# Altium footprint library PcbLib1.PcbLib: 32 footprints (part 1 of 2)
Each footprint in its own frame and in the unit in brackets; x right, y up, seen from the top. Pads: shape width x height; smd on the part's side, far side on the other; paste and mask are expansions set on the pad; w line width, h text height; cw(c..) or ccw(c..) is an arc to the next point about the centre after c.
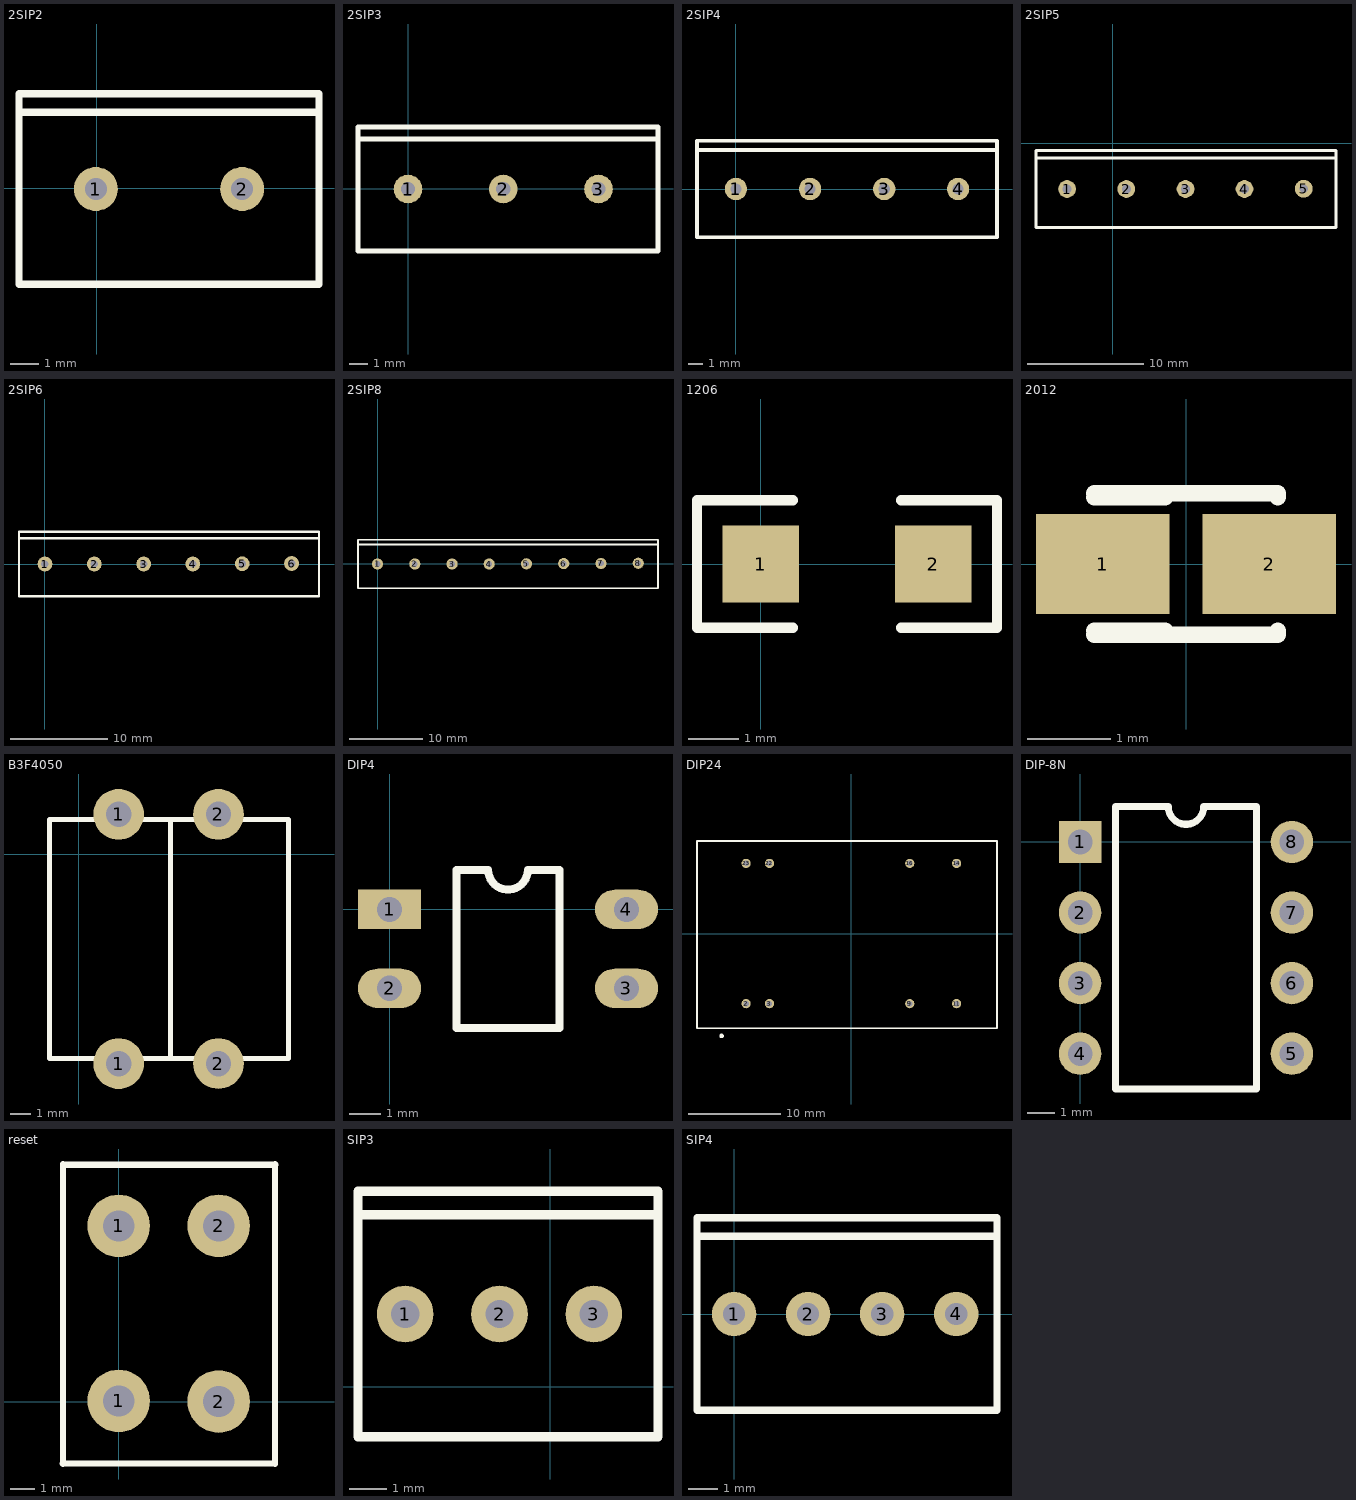
[diagram p0: the footprints below, top view; thin cyan lines are the x and y axes]

## 2SIP2 [mil]
pads (2):
  round 60 hole 30: 1(-1,-1) 2(199,-1)
Top Overlay:
  lines w10: -106,104 304,104 ; -106,-131 -106,129 304,129 304,-131 -106,-131

## 2SIP3 [mil]
pads (3):
  round 60 hole 30: 1(-1,-1) 2(199,-1) 3(399,-1)
Top Overlay:
  lines w10: -106,104 524,104 ; -106,-131 -106,129 524,129 524,-131 -106,-131

## 2SIP4 [mil]
pads (4):
  round 60 hole 30: 1(0,0) 2(200,0) 3(400,0) 4(599,0)
Top Overlay:
  lines w10: -105,105 704,105 ; -105,-130 -105,130 704,130 704,-130 -105,-130

## 2SIP5 [mil]
pads (5):
  round 60 hole 30: 1(-154,-154) 2(46,-154) 3(246,-154) 4(445,-154) 5(645,-153)
Top Overlay:
  lines w10: -259,-49 754,-49 ; -259,-284 754,-284 754,-24 -259,-24 -259,-284

## 2SIP6 [mil]
pads (6):
  round 60 hole 30: 1(0,0) 2(200,0) 3(400,0) 4(599,0) 5(799,1) 6(999,2)
Top Overlay:
  lines w10: -105,105 1110,105 ; -105,-130 -105,130 1110,130 1110,-130 -105,-130

## 2SIP8 [mil]
pads (8):
  round 60 hole 30: 1(-1,0) 2(199,0) 3(399,0) 4(598,0) 5(798,1) 6(998,2) 7(1198,3) 8(1398,4)
Top Overlay:
  lines w10: -106,105 1504,105 ; -106,-130 1504,-130 1504,130 -106,130 -106,-130

## 1206 [mil]
pads (2):
  rect 60x60 smd: 1(0,0) 2(135,0)
Top Overlay:
  lines w8: 25,-50 -50,-50 -50,50 25,50 ; 110,-50 185,-50 185,50 110,50

## 2012 [mm] "Capacitor, SM Tantalum; Body 2.0 x 1.25 mm (LxW typ)"
height 1.2
pads (2):
  rect 1.6x1.2 smd: 1(-1,0) 2(1,0)
Top Overlay:
  lines w0.2: -1.1,-0.85 1.1,-0.85 1.1,-0.8 ; -1.1,-0.8 -0.25,-0.8 ; -1.1,0.8 -0.25,0.8 ; -1.1,0.85 1.1,0.85 1.1,0.8

## B3F4050 [mm]
pads (4):
  round 2.54 hole 1.27: 1(2,-10.5) 1(2,2) 2(7,-10.497) 2(7,2)
Top Overlay:
  lines w0.254: 4.597,-10.25 4.597,1.75 ; -1.473,-10.25 10.516,-10.25 10.516,1.75 -1.473,1.75 -1.473,-10.25

## DIP4 [mil]
pads (4):
  rect 80x50 hole 32: 1(0,0)
  oval 80x50 hole 32: 2(0,-100) 3(300,-100) 4(300,0)
Top Overlay:
  lines w10: 85,-150 85,50 125,50 ccw(c150,50) 175,50 215,50 215,-150 85,-150

## DIP24 [mm]
height 9.65
pads (8):
  round 1 hole 0.6: 2(-11.43,-7.62) 3(-8.89,-7.62) 9(6.35,-7.62) 11(11.43,-7.62) 14(11.43,7.62) 16(6.35,7.62) 22(-8.89,7.62) 23(-11.43,7.62)
Top Overlay:
  circle w0.25: c-14.095,-11.125 r0.125
  lines w0.2: -16.764,-10.287 -16.764,10.058 15.824,10.058 15.824,-10.287 -16.764,-10.287

## DIP-8N [mil]
pads (8):
  rect 60x60 hole 35: 1(0,0)
  round 60 hole 35: 2(0,-100) 3(0,-200) 4(0,-300) 5(300,-300) 6(300,-200) 7(300,-100) 8(300,0)
Top Overlay:
  lines w10: 50,-350 50,50 125,50 ccw(c150,50) 175,50 250,50 250,-350 50,-350

## GWSO8 [mm]

## reset [mil]
pads (4):
  round 100 hole 50: 1(0,1) 1(0,281) 2(160,0) 2(160,281)
Top Overlay:
  lines w10: -90,-99 250,-99 ; -89,-100 -89,380 ; -89,379 251,379 ; 250,-100 250,380

## SIP3 [mil]
pads (3):
  round 60 hole 30: 1(-154,77) 2(-54,77) 3(46,77)
Top Overlay:
  lines w10: -204,182 114,182 ; -204,-53 114,-53 114,207 -204,207 -204,-53

## SIP4 [mil]
pads (4):
  round 60 hole 30: 1(0,0) 2(100,0) 3(200,0) 4(300,0)
Top Overlay:
  lines w10: -50,105 355,105 ; -50,-130 355,-130 355,130 -50,130 -50,-130